# Altium schematic symbol library SCH - POWER - LINEAR VREG - AD LT1761-X S5.SchLib: 1 symbol
Pins are listed as number, name and electrical type; pins without a type are passive.

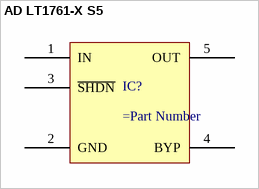
[diagram p0: symbol AD LT1761-X S5]

## AD LT1761-X S5
designator IC?
pins: 1 IN, 2 GND, 3 ~{SHDN}, 4 BYP, 5 OUT